# Altium footprint library UDFN6.PcbLib: 1 footprints
Each footprint in its own frame and in the unit in brackets; x right, y up, seen from the top. Pads: shape width x height; smd on the part's side, far side on the other; paste and mask are expansions set on the pad; w line width, h text height; cw(c..) or ccw(c..) is an arc to the next point about the centre after c.
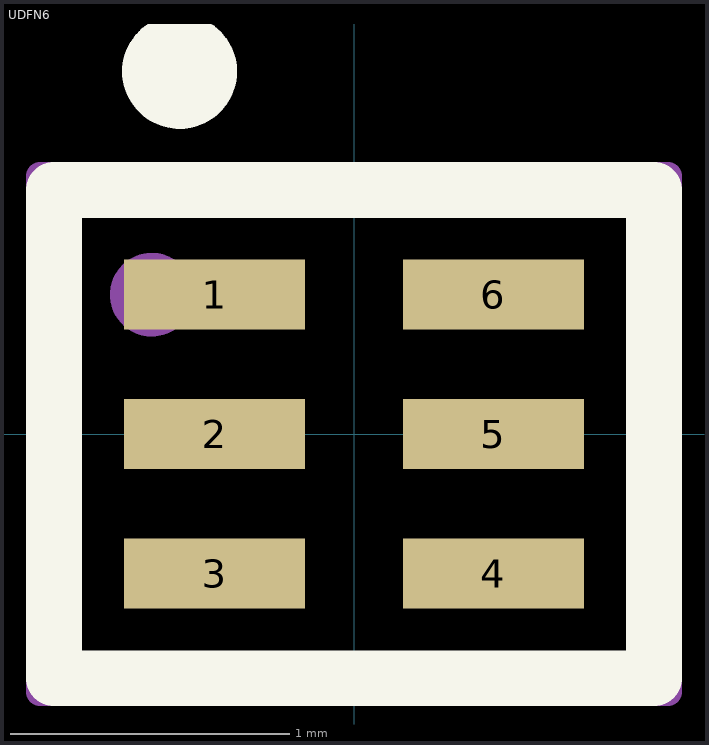
[diagram p0: the footprint, top view; thin cyan lines are the x and y axes]

## UDFN6 [mm]
pads (6):
  rect 0.65x0.25 smd paste+0 mask+0.05: 1(-0.5,0.5) 2(-0.5,0) 3(-0.5,-0.5) 4(0.5,-0.5) 5(0.5,0) 6(0.5,0.5)
Top Overlay:
  circle w0.3: c-0.625,1.3 r0.056
  lines w0.2: -1.075,-0.875 1.075,-0.875 1.075,0.875 -1.075,0.875 -1.075,-0.875
Top Assembly:
  circle w0.2: c-0.725,0.5 r0.05
  lines w0.1: -1.125,-0.925 1.125,-0.925 1.125,0.925 -1.125,0.925 -1.125,-0.925
  text "'.Designator'" at -0.925,-0.45 h0.7
3D body "ufdfn-6.STEP": height 0.65, standoff 0, extent -0.553,-0.65 0.553,0.65